# EAGLE library part BQ27210 (library my_texasInstruments)
Conrad 1261895 - 62
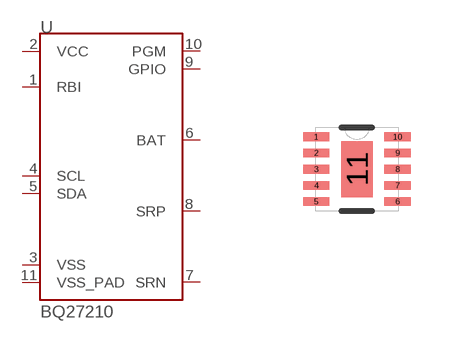
[diagram p0: symbol with the pads of SON40P200X200X80-10N; footprint SON40P200X200X80-10N]

Designator prefix -

## BQ27210  [SON40P200X200X80-10N]
1  RBI
2  VCC
3  VSS
4  SCL
5  SDA
6  BAT
7  SRN
8  SRP
9  GPIO
10  PGM
11  VSS_PAD

## Footprint SON40P200X200X80-10N (pad centres in mm)
smd 0.66 x 0.22: 1 -1.016,0.807; 2 -1.016,0.406; 3 -1.016,0; 4 -1.016,-0.406; 5 -1.016,-0.807; 6 1.016,-0.807; 7 1.016,-0.406; 8 1.016,0; 9 1.016,0.406; 10 1.016,0.807
smd 0.787 x 1.397: 11 0,0